# Altium schematic symbol library module.SchLib: 7 symbols
Pins are listed as number, name and electrical type; pins without a type are passive.

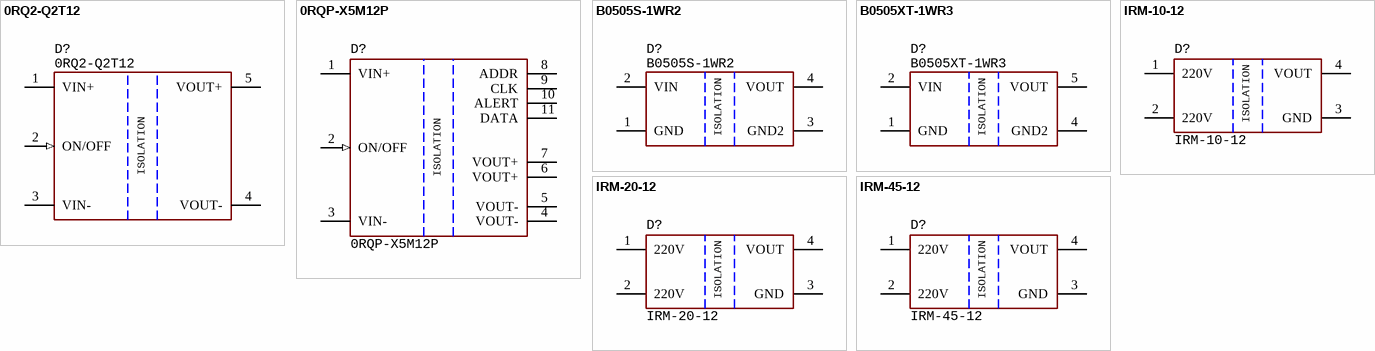
[diagram p0: symbols 0RQ2-Q2T12 to IRM-45-12]

## 0RQ2-Q2T12
designator D?
Brick 1/4, 420W, input 36-75VDC, outpit 12V, 35A, 1500Vrms, -40...+85°C; Manufacture: BelFuse; HelpURL: https://www.belfuse.com/product-detail/power-solutions-dc-dc-isolated-bricks-quarter-bricks-0rq2-q2t12-series?navCategory=QuarterBricksbmpisolatedbricksDcdcPowerSolutionsProductType; Package: 1/4 Brick; PartNumber: 0RQ2-Q2T12
footprint MOD: 0RQ2-Q2T12
pins: 1 VIN+, 2 ON/OFF (in), 3 VIN-, 4 VOUT-, 5 VOUT+
text: ISOLATION

## 0RQP-X5M12P
designator D?
Brick 1/4, 1500W, input 48...60V, output 12V, -20...+85°C; Manufacturer: BelFuse; Manufacturer: Bel; Manufacturer Part Number: 0RQP-X5M12PG; HelpURL: https://belfuse.com/product-detail/power-solutions-dc-dc-isolated-bricks-quarter-bricks-0RQP-X5M12P-series?navCategory=QuarterBricksbmpisolatedbricksDcdcPowerSolutionsProductType; Package: 1/4 Brick; Component Type: Modules; PartNumber: 0RQP-X5M12P
footprint MOD: 0RQP-X5M12P
pins: 1 VIN+, 2 ON/OFF (in), 3 VIN-, 4 VOUT-, 5 VOUT-, 6 VOUT+, 7 VOUT+, 8 ADDR, 9 CLK, 10 ALERT, 11 DATA
text: ISOLATION

## B0505S-1WR2
designator D?
DC/DC isolator, 1W, input 4.5...5.5V, 200 mA, 1500 Vrms, SIP-4, -40...+105°C; Manufacture: Mornsun; HelpURL: https://www.chipdip.ru/product/b0505s-1wr2?utm_source=direct&utm_medium=cpc&position_type=premium%7Ck50id%7C010000002651830_2651830%7Ccid%7C60323483%7Cgid%7C4964180149%7Caid%7C12395840300%7Csrc%7Csearch_none&utm_campaign=Y_dinamicheskaya&utm_content=text9_ya&utm_term=&_openstat=ZGlyZWN0LnlhbmRleC5ydTs2MDMyMzQ4MzsxMjM5NTg0MDMwMDt5YW5kZXgucnU6cHJlbWl1bQ&yclid=5257034202689306623; Package: SIP-4; PartNumber: B0505S-1WR2
footprint MOD: SIP-4 (B0505S-1W)
pins: 1 GND (power), 2 VIN (power), 3 GND2 (power), 4 VOUT (power)
text: ISOLATION

## B0505XT-1WR3
designator D?
DC/DC isolator, 1W, input 4.5...5.5V, 200 mA, 1500 Vrms, SMD-8, -40...+105°C; Manufacture: Mornsun; HelpURL: https://www.chipdip.ru/product0/8001784232; Package: SMD-8; PartNumber: B0505XT-1WR3
footprint MOD: B0505XT-1WR3
pins: 1 GND (power), 2 VIN (power), 4 GND2 (power), 5 VOUT (power)
text: ISOLATION

## IRM-10-12
designator D?
AC/DC Module, 12V, 10W, 0.85A, Isolator, 85...265VAC, -30...+70°C; Manufacturer: Mean Well; HelpURL: https://www.chipdip.ru/product/irm-10-12; Package: 52x27x24 mm; PartNumber: IRM-10-12
footprint MOD: IRM-10-12
pins: 1 220V (power), 2 220V (power), 3 GND (power), 4 VOUT (power)
text: ISOLATION

## IRM-20-12
designator D?
AC/DC Module, 12V, 20W, 1.8A, Isolator, 85...265VAC, -30...+70°C; Manufacturer: Mean Well; HelpURL: https://www.digikey.com/products/en?keywords=IRM-20-12; Package: 52x27x24 mm; PartNumber: IRM-20-12
footprint MOD: IRM-20-12
pins: 1 220V (power), 2 220V (power), 3 GND (power), 4 VOUT (power)
text: ISOLATION

## IRM-45-12
designator D?
AC/DC Module, 12V, 45W, 3.8A, Isolator, 85...265VAC, -30...+70°C; Manufacturer: Mean Well; HelpURL: https://www.chipdip.ru/product0/8007034921; Package: 52x27x24 mm; PartNumber: IRM-45-12
footprint MOD: IRM-45-12
pins: 1 220V (power), 2 220V (power), 3 GND (power), 4 VOUT (power)
text: ISOLATION